# Altium schematic symbol library SecureBot.SchLib: 56 symbols
Pins are listed as number, name and electrical type; pins without a type are passive.

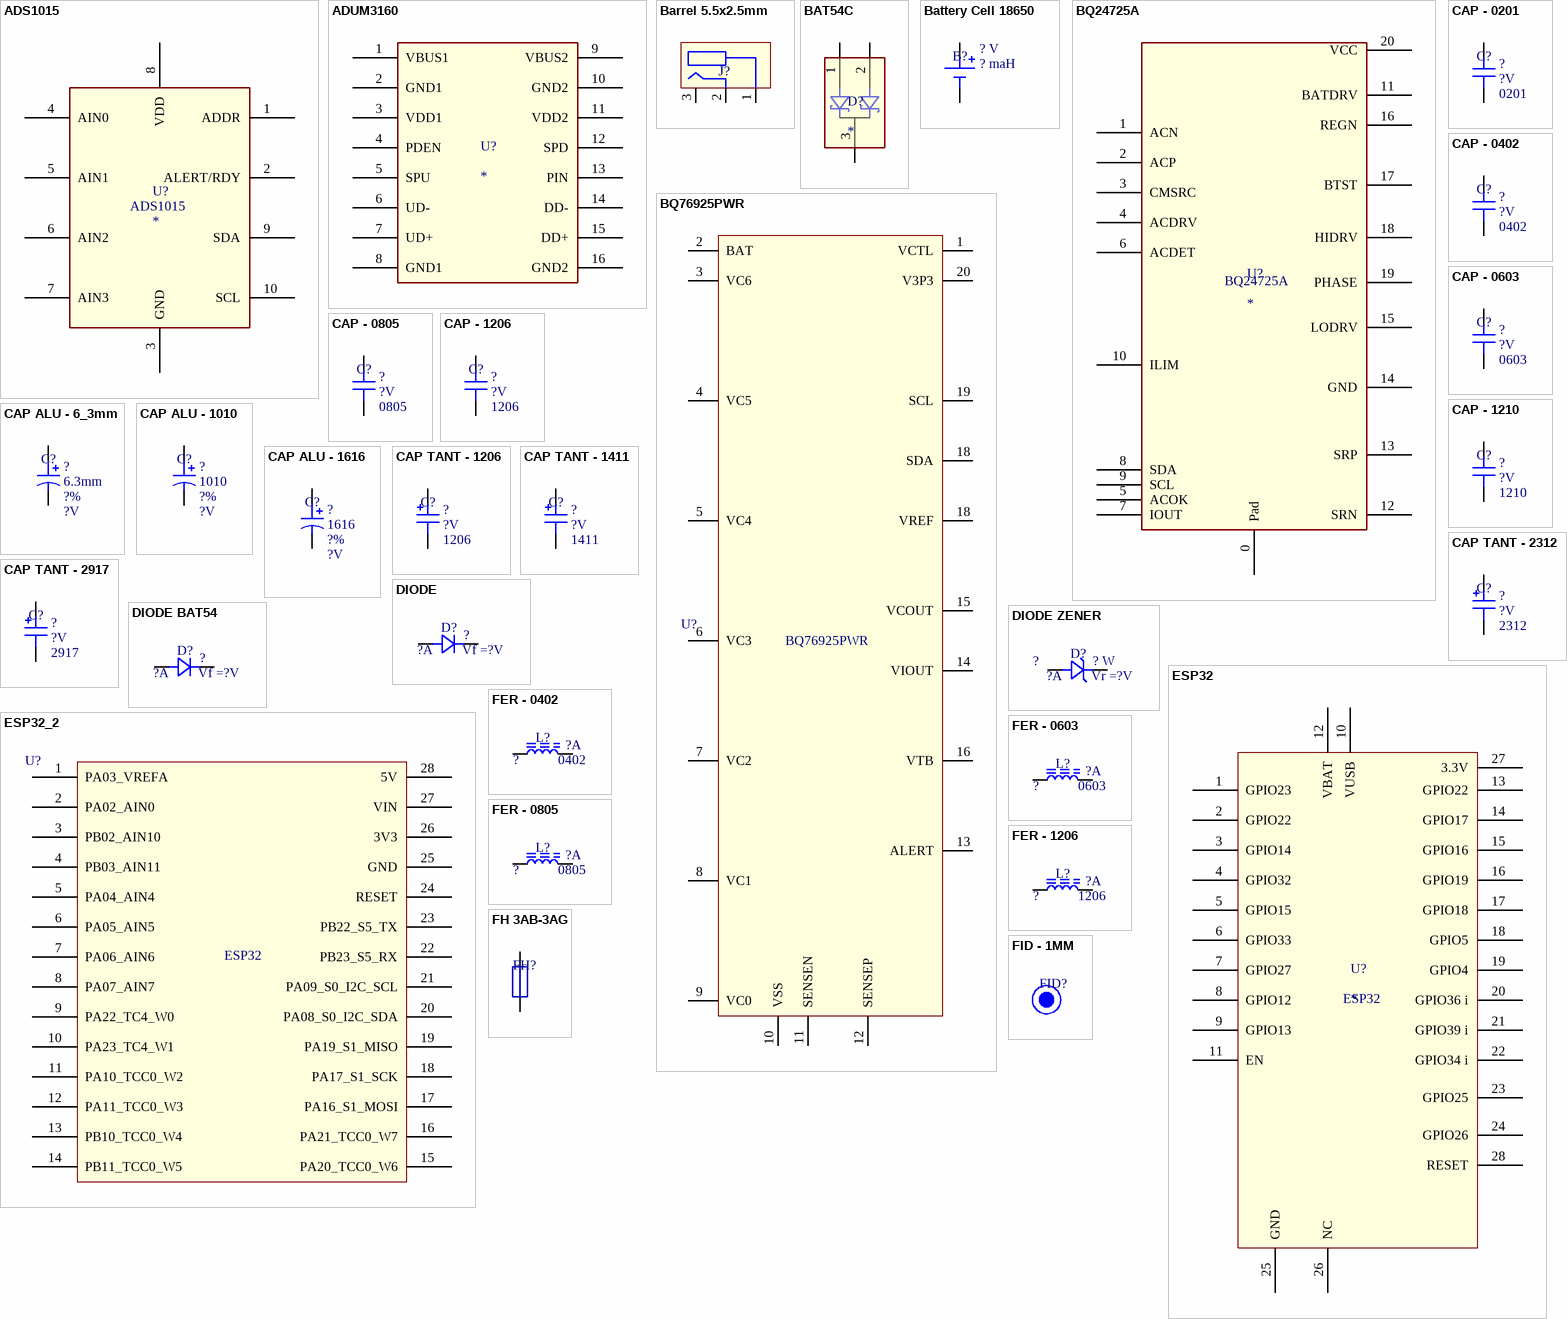
[diagram p0: symbols ADS1015 to FID - 1MM]

## ADS1015
designator U?
Part number: ADS1015
footprint ADS1015
pins: 1 ADDR, 2 ALERT/RDY, 3 GND, 4 AIN0, 5 AIN1, 6 AIN2, 7 AIN3, 8 VDD, 9 SDA, 10 SCL

## ADUM3160
designator U?
Part number: ADUM3160
footprint SOIC16
pins: 1 VBUS1, 2 GND1, 3 VDD1, 4 PDEN, 5 SPU, 6 UD-, 7 UD+, 8 GND1, 9 VBUS2, 10 GND2, 11 VDD2, 12 SPD, 13 PIN, 14 DD-, 15 DD+, 16 GND2

## Barrel 5.5x2.5mm
designator J?  (value not drawn)
Jack 5.5x2.5mm; Part number: *
footprint Barrel 5.5mm 2.5mm
pins: 1, 2, 3

## BAT54C
designator D?
footprint BAT54C
pins: 1, 2, 3

## Battery Cell 18650
designator B?  Voltage: ? V  Charge: ? maH  (hidden comment: *)
Part Number: *
footprint 18650 PC PIN
pins: 1, 2

## BQ24725A
designator U?
footprint bq24725A
pins: 0 Pad, 1 ACN, 2 ACP, 3 CMSRC, 4 ACDRV, 5 ACOK, 6 ACDET, 7 IOUT, 8 SDA, 9 SCL, 10 ILIM, 11 BATDRV, 12 SRN, 13 SRP, 14 GND, 15 LODRV, 16 REGN, 17 BTST, 18 HIDRV, 19 PHASE, 20 VCC

## BQ76925PWR
designator U?  (value not drawn)
Part Number: BQ76925PWR
footprint BQ76925
pins: 1 VCTL, 2 BAT, 3 VC6, 4 VC5, 5 VC4, 6 VC3, 7 VC2, 8 VC1, 9 VC0, 10 VSS, 11 SENSEN, 12 SENSEP, 13 ALERT, 14 VIOUT, 15 VCOUT, 16 VTB, 18 SDA, 18 VREF, 19 SCL, 20 V3P3

## CAP - 0201
designator C?  Package: 0201  Voltage: ?V  (hidden comment: CAP - 0201)
Part number: *; Value: ?
footprint CAP_0201
pins: 1, 2

## CAP - 0402
designator C?  Package: 0402  Voltage: ?V  (hidden comment: CAP - 0402)
Part number: *; Value: ?
footprint CAP_0402
pins: 1, 2

## CAP - 0603
designator C?  Package: 0603  Voltage: ?V  (hidden comment: CAP - 0603)
Part number: *; Value: ?
footprint CAP_0603
pins: 1, 2

## CAP - 0805
designator C?  Package: 0805  Voltage: ?V  (hidden comment: CAP - 0805)
Part number: *; Value: ?
footprint CAP_0805
pins: 1, 2

## CAP - 1206
designator C?  Package: 1206  Voltage: ?V  (hidden comment: CAP - 1206)
Part number: *; Value: ?
footprint CAP_1206
pins: 1, 2

## CAP - 1210
designator C?  Package: 1210  Voltage: ?V  (hidden comment: CAP - 1210)
Part number: *; Value: ?
footprint CAP_1210
pins: 1, 2

## CAP ALU - 6_3mm
designator C?, comment Package: 6.3mm  Tolerance: ?%  Voltage: ?V  (hidden comment: CAP ALU - 6.3mm)
Part number: *; Value: ?
footprint CAP ALU - 6.3mm DIA
pins: 1, 2

## CAP ALU - 1010
designator C?  Package: 1010  Tolerance: ?%  Voltage: ?V  (hidden comment: CAP ALU - 1010)
Part number: *; Value: ?
footprint CAP ALU - 1010
pins: 1, 2

## CAP ALU - 1616
designator C?  Package: 1616  Tolerance: ?%  Voltage: ?V  (hidden comment: CAP ALU - 1616)
Part number: *; Value: ?
footprint CAP ALU - 1616
pins: 1, 2

## CAP TANT - 1206
designator C?  Package: 1206  Voltage: ?V  (hidden comment: CAP TANT - 1206)
Part number: *; Value: ?
footprint CAP TAN - 1206
pins: 1, 2

## CAP TANT - 1411
designator C?  Package: 1411  Voltage: ?V  (hidden comment: CAP TANT - 1411)
Part number: *; Value: ?
footprint CAP TAN - 1411
pins: 1, 2

## CAP TANT - 2312
designator C?  Package: 2312  Voltage: ?V  (hidden comment: CAP TANT - 2312)
Part number: *; Value: ?
footprint CAP TAN - 2312
pins: 1, 2

## CAP TANT - 2917
designator C?  Package: 2917  Voltage: ?V  (hidden comment: CAP TANT - 2917)
Part number: *; Value: ?
footprint CAP TAN - 2917
pins: 1, 2

## DIODE
designator D?  Current: ?A  Vf: Vf =?V  (hidden comment: *)
Part number: ?
pins: 1, 2

## DIODE BAT54
designator D?  Current: ?A  Vf: Vf =?V  (hidden comment: *)
Part number: ?
pins: 1, 3

## DIODE ZENER
designator D?  Current: ?A  Vf: Vr =?V  Power: ? W  (hidden comment: *)
Part number: ?
pins: 1, 2

## ESP32
designator U?
footprint ESP32 V1
pins: 1 GPIO23, 2 GPIO22, 3 GPIO14, 4 GPIO32, 5 GPIO15, 6 GPIO33, 7 GPIO27, 8 GPIO12, 9 GPIO13, 10 VUSB, 11 EN, 12 VBAT, 13 GPIO22, 14 GPIO17, 15 GPIO16, 16 GPIO19, 17 GPIO18, 18 GPIO5, 19 GPIO4, 20 GPIO36 i, 21 GPIO39 i, 22 GPIO34 i, 23 GPIO25, 24 GPIO26, 25 GND, 26 NC, 27 3.3V, 28 RESET

## ESP32_2
designator U?  (value not drawn)
Part number: *
footprint ESP32 V2
pins: 1 PA03_VREFA, 2 PA02_AIN0, 3 PB02_AIN10, 4 PB03_AIN11, 5 PA04_AIN4, 6 PA05_AIN5, 7 PA06_AIN6, 8 PA07_AIN7, 9 PA22_TC4_W0, 10 PA23_TC4_W1, 11 PA10_TCC0_W2, 12 PA11_TCC0_W3, 13 PB10_TCC0_W4, 14 PB11_TCC0_W5, 15 PA20_TCC0_W6, 16 PA21_TCC0_W7, 17 PA16_S1_MOSI, 18 PA17_S1_SCK, 19 PA19_S1_MISO, 20 PA08_S0_I2C_SDA, 21 PA09_S0_I2C_SCL, 22 PB23_S5_RX, 23 PB22_S5_TX, 24 RESET, 25 GND, 26 3V3, 27 VIN, 28 5V
text: ESP32

## FER - 0402
designator L?  Package: 0402  Current: ?A  (hidden comment: FER - 0402)
Part number: *; Value: ?
footprint FER_0402
pins: 1, 2

## FER - 0603
designator L?  Package: 0603  Current: ?A  (hidden comment: FER - 0603)
Part number: *; Value: ?
footprint FER_0603
pins: 1, 2

## FER - 0805
designator L?  Package: 0805  Current: ?A  (hidden comment: FER - 0805)
Part number: *; Value: ?
footprint FER_0805
pins: 1, 2

## FER - 1206
designator L?  Package: 1206  Current: ?A  (hidden comment: FER - 1206)
Part number: *; Value: ?
footprint FER_1206
pins: 1, 2

## FH 3AB-3AG
designator FH?  (value not drawn)
Fuse holder (3AB-3AG); Part number: *
footprint FH_3AB_3AG
pins: 1, 2

## FID - 1MM
designator FID?, comment Fiducial 1mm  (value not drawn)
FID - 1MM
footprint FID_1MM (Fiducial 1mm diameter - Exposed 2mm)

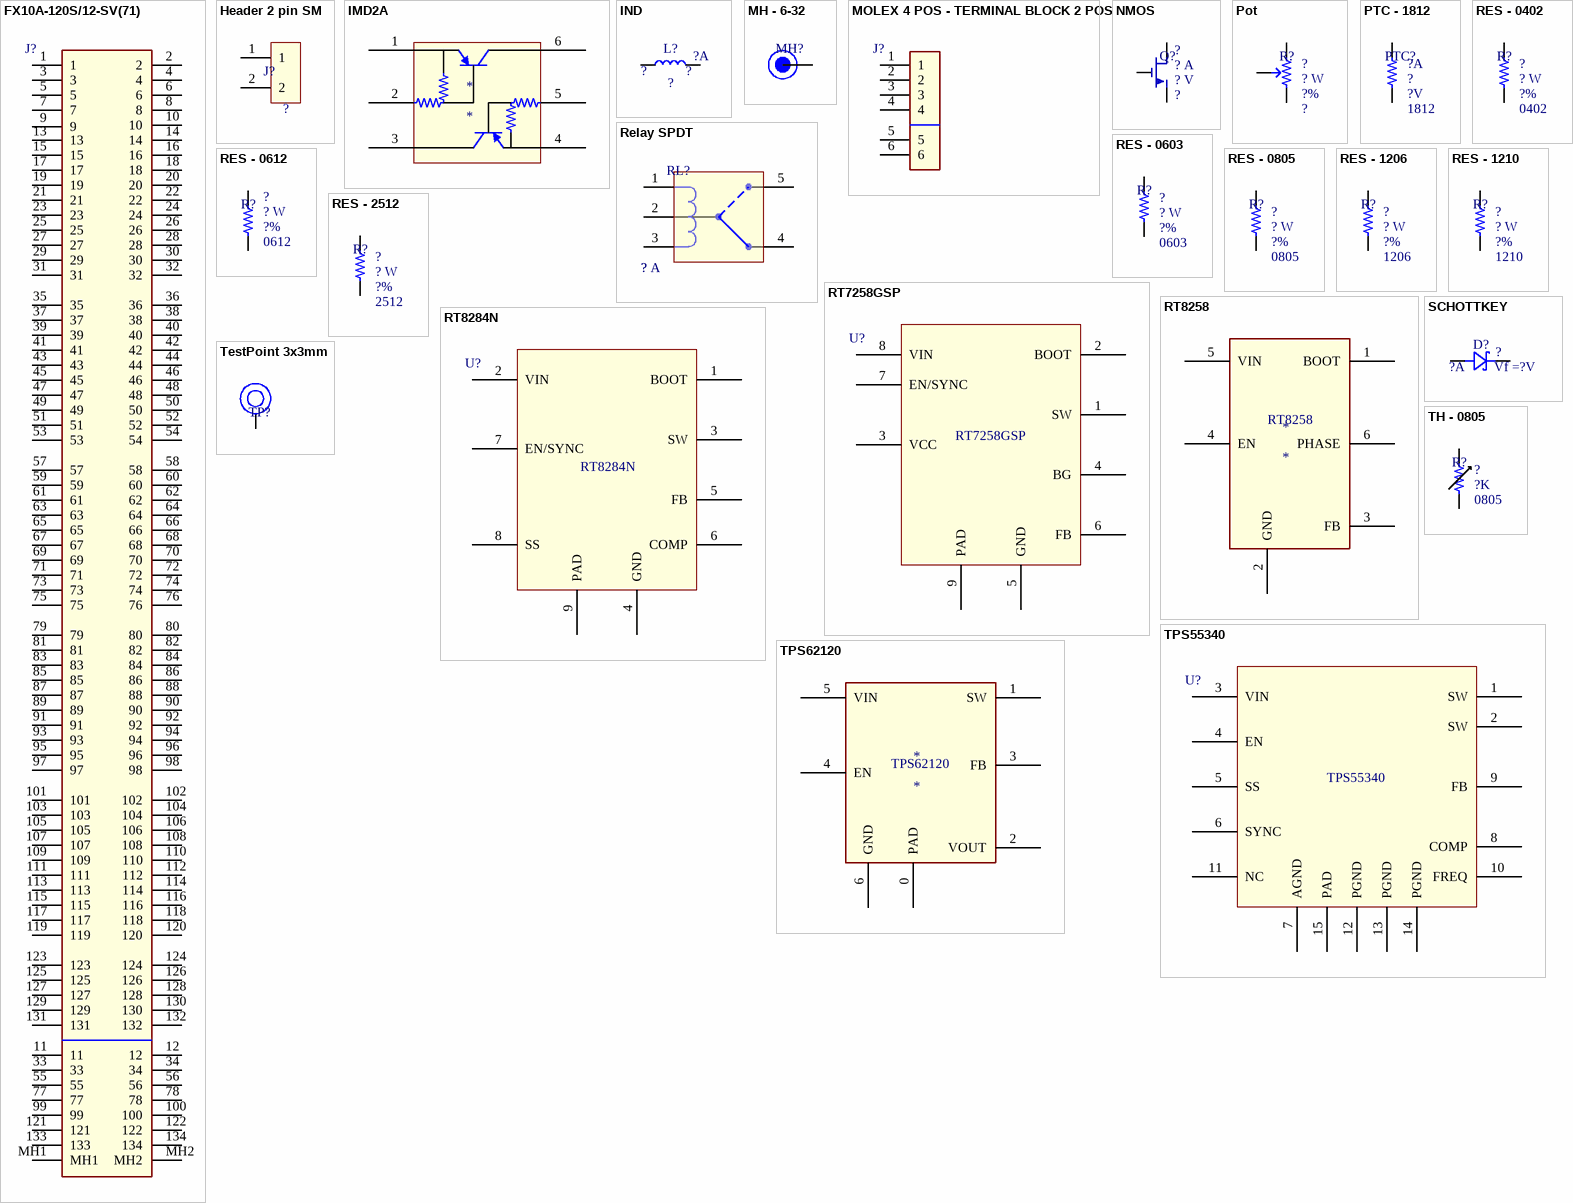
[diagram p1: symbols FX10A-120S/12-SV(71) to TPS62120]

## FX10A-120S/12-SV(71)
designator J?  (value not drawn)
FX10A-120S/12-SV(71); Part number: FX10A-120S/12-SV(71)
footprint FX10A-120S/12-SV(71)
pins: 1, 2, 3, 4, 5, 6, 7, 8, 9, 10, 11, 12, 13, 14, 15, 16, 17, 18, 19, 20, 21, 22, 23, 24, 25, 26, 27, 28, 29, 30, 31, 32, 33, 34, 35, 36, 37, 38, 39, 40, 41, 42, 43, 44, 45, 46, 47, 48, 49, 50, 51, 52, 53, 54, 55, 56, 57, 58, 59, 60, 61, 62, 63, 64, 65, 66, 67, 68, 69, 70, 71, 72, 73, 74, 75, 76, 77, 78, 79, 80, 81, 82, 83, 84, 85, 86, 87, 88, 89, 90, 91, 92, 93, 94, 95, 96, 97, 98, 99, 100, 101, 102, 103, 104, 105, 106, 107, 108, 109, 110, 111, 112, 113, 114, 115, 116, 117, 118, 119, 120, 121, 122, 123, 124, 125, 126, 127, 128, 129, 130, 131, 132, 133, 134, MH1, MH2

## Header 2 pin SM
designator J?  (value not drawn)
Part number: ?
footprint Jumper 2 pos SM
pins: 1, 2

## IMD2A
designator *
Dual digital Transistor
footprint IMD2A
pins: 1, 2, 3, 4, 5, 6

## IND
designator L?  Current: ?A  (hidden comment: IND)
Value: ?; Package: ?; Part number: ?
pins: 1, 2

## MH - 6-32
designator MH?, comment Mounting Hole 6/32  (value not drawn)
footprint MH_ENG_6-32 (Mounting hole - Imperial 6-32)
pins: 1

## MOLEX 4 POS - TERMINAL BLOCK 2 POS
designator J?  (value not drawn)
Part number: *
footprint MOLEX4POS_TERMBLOCK2POS
pins: 1, 2, 3, 4, 5, 6

## NMOS
designator Q?  A max: ? A  Vds max: ? V  (hidden comment: *)
Part number: ?; Ron: ?
pins: 1, 2, 3

## Pot
designator R?  Watt: ? W  Tolerance: ?%  (hidden comment: Pot)
Part number: *; Value: ?; Package: ?
pins: 1, 2, 3

## PTC - 1812
designator PTC?  Trip value: ?A  Voltage: ?V  Package: 1812  (hidden comment: PTC - 1812)
Part number: *; Res: ?
footprint PTC - 1812
pins: 1, 2

## Relay SPDT
designator RL?  A max: ? A  (hidden comment: *)
Part number: ?
footprint ORWH-SH
pins: 1, 2, 3, 4, 5

## RES - 0402
designator R?  Watt: ? W  Tolerance: ?%  Package: 0402  (hidden comment: RES - 0402)
Part number: *; Value: ?
footprint RES_0402
pins: 1, 2

## RES - 0603
designator R?  Watt: ? W  Tolerance: ?%  Package: 0603  (hidden comment: RES - 0603)
Part number: *; Value: ?
footprint RES_0603
pins: 1, 2

## RES - 0612
designator R?  Watt: ? W  Tolerance: ?%  Package: 0612  (hidden comment: RES - 0612)
Part number: *; Value: ?
footprint RES_0612
pins: 1, 2

## RES - 0805
designator R?  Watt: ? W  Tolerance: ?%  Package: 0805  (hidden comment: RES - 0805)
Part number: *; Value: ?
footprint RES_0805
pins: 1, 2

## RES - 1206
designator R?  Watt: ? W  Tolerance: ?%  Package: 1206  (hidden comment: RES - 1206)
Part number: *; Value: ?
footprint RES_1206
pins: 1, 2

## RES - 1210
designator R?  Watt: ? W  Tolerance: ?%  Package: 1210  (hidden comment: RES - 1210)
Part number: *; Value: ?
footprint RES_1210
pins: 1, 2

## RES - 2512
designator R?  Watt: ? W  Tolerance: ?%  Package: 2512  (hidden comment: RES - 2512)
Part number: *; Value: ?
footprint RES_2512
pins: 1, 2

## RT7258GSP
designator U?  (value not drawn)
Part number: RT7258GSP
footprint 8-SOIC (3.9mm W)
pins: 1 SW, 2 BOOT, 3 VCC, 4 BG, 5 GND, 6 FB, 7 EN/SYNC, 8 VIN, 9 PAD

## RT8258
designator *
Part number: RT8258
footprint SOT23-6
pins: 1 BOOT, 2 GND, 3 FB, 4 EN, 5 VIN, 6 PHASE

## RT8284N
designator U?  (value not drawn)
RT8284N; Part number: RT8284N
footprint SOP8
pins: 1 BOOT, 2 VIN, 3 SW, 4 GND, 5 FB, 6 COMP, 7 EN/SYNC, 8 SS, 9 PAD

## SCHOTTKEY
designator D?  Current: ?A  Vf: Vf =?V  (hidden comment: *)
Part number: ?
pins: 1, 2

## TestPoint 3x3mm
designator TP?  (value not drawn)
footprint TestPoint 3X3mm
pins: 1

## TH - 0805
designator R?  B: ?K  Package: 0805  (hidden comment: TH - 0805)
Part number: *; Resistance @ 25C: ?
footprint RES_0805
pins: 1, 2

## TPS55340
designator U?  (value not drawn)
Part number: TPS55340
footprint 14-TSSOP
pins: 1 SW, 2 SW, 3 VIN, 4 EN, 5 SS, 6 SYNC, 7 AGND, 8 COMP, 9 FB, 10 FREQ, 11 NC, 12 PGND, 13 PGND, 14 PGND, 15 PAD

## TPS62120
designator *
footprint DRV-6
pins: 0 PAD, 1 SW, 2 VOUT, 3 FB, 4 EN, 5 VIN, 6 GND